# Altium schematic symbol library RT0603BRD0740KL.SchLib: 1 symbol
Pins are listed as number, name and electrical type; pins without a type are passive.

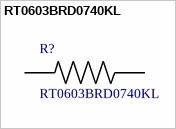
[diagram p0: symbol RT0603BRD0740KL]

## RT0603BRD0740KL
designator R?
MF: Yageo; Availability: Unavailable; Price: None; SnapEDA_Link: https://www.snapeda.com/parts/RT0603BRD0740KL/Yageo/view-part/?ref=snap; Package: 1608 Yageo; MP: RT0603BRD0740KL; Value: *
footprint *RESC1608X55N
pins: 1, 2